# Altium footprint library IPC-7355 QFP_Sq_65P_Side_N.PcbLib: 7 footprints
Each footprint in its own frame and in the unit in brackets; x right, y up, seen from the top. Pads: shape width x height; smd on the part's side, far side on the other; paste and mask are expansions set on the pad; w line width, h text height; cw(c..) or ccw(c..) is an arc to the next point about the centre after c.
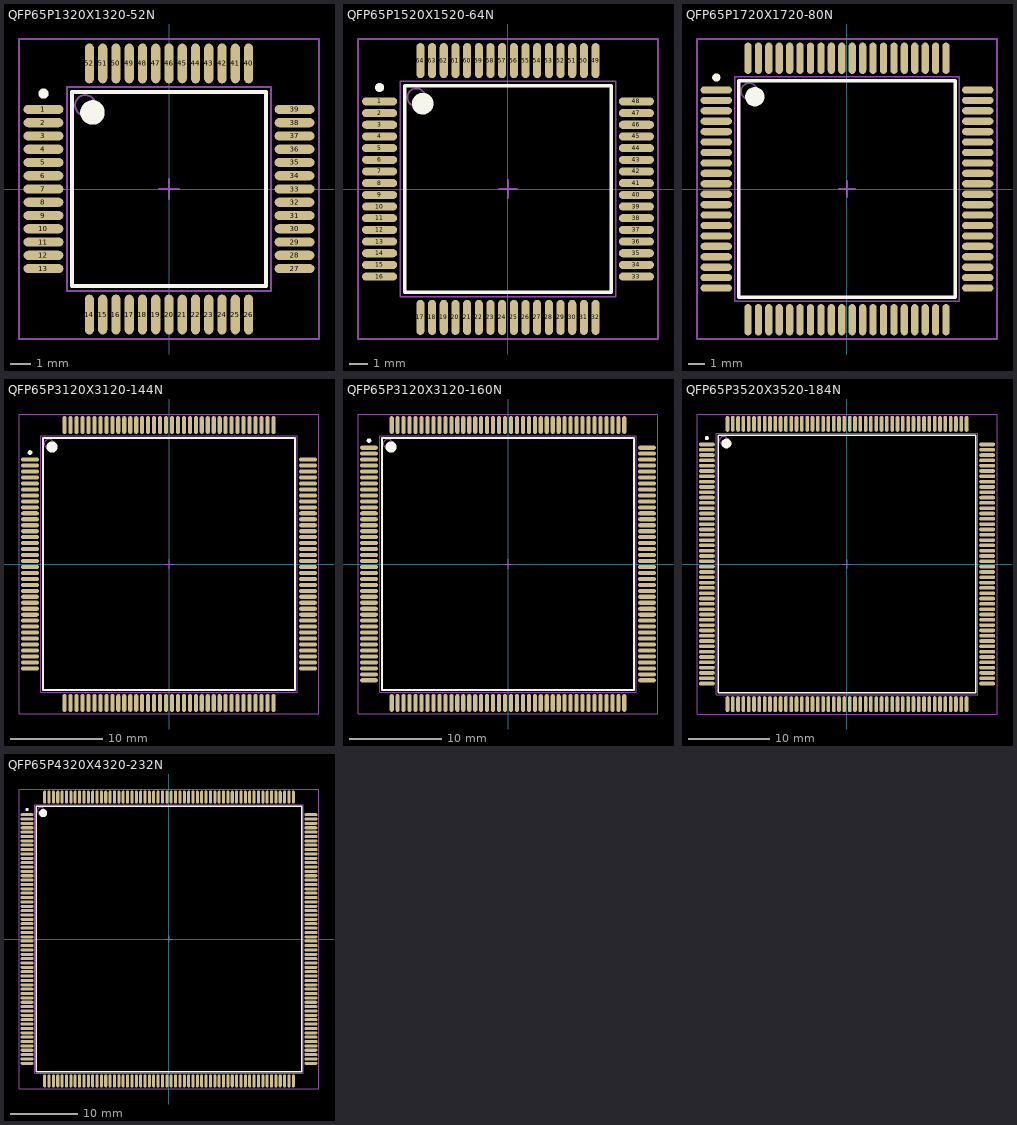
[diagram p0: the footprints below, top view; thin cyan lines are the x and y axes]

## QFP65P1320X1320-52N [mm] "QFP, 52-Leads, Body 10 x 10 mm, Pitch 0.65mm, IPC Medium Density"
height 2.45
pads (52):
  oval 1.95x0.45 smd: 1(-6.15,3.9) 2(-6.15,3.25) 3(-6.15,2.6) 4(-6.15,1.95) 5(-6.15,1.3) 6(-6.15,0.65) 7(-6.15,0) 8(-6.15,-0.65) 9(-6.15,-1.3) 10(-6.15,-1.95) 11(-6.15,-2.6) 12(-6.15,-3.25) 13(-6.15,-3.9) 27(6.15,-3.9) 28(6.15,-3.25) 29(6.15,-2.6) 30(6.15,-1.95) 31(6.15,-1.3) 32(6.15,-0.65) 33(6.15,0) 34(6.15,0.65) 35(6.15,1.3) 36(6.15,1.95) 37(6.15,2.6) 38(6.15,3.25) 39(6.15,3.9)
  oval 0.45x1.95 smd: 14(-3.9,-6.15) 15(-3.25,-6.15) 16(-2.6,-6.15) 17(-1.95,-6.15) 18(-1.3,-6.15) 19(-0.65,-6.15) 20(0,-6.15) 21(0.65,-6.15) 22(1.3,-6.15) 23(1.95,-6.15) 24(2.6,-6.15) 25(3.25,-6.15) 26(3.9,-6.15) 40(3.9,6.15) 41(3.25,6.15) 42(2.6,6.15) 43(1.95,6.15) 44(1.3,6.15) 45(0.65,6.15) 46(0,6.15) 47(-0.65,6.15) 48(-1.3,6.15) 49(-1.95,6.15) 50(-2.6,6.15) 51(-3.25,6.15) 52(-3.9,6.15)
Top Overlay:
  circle w0.6: c-3.75,3.75 r0.3
  circle w0.25: c-6.15,4.675 r0.125
  lines w0.2: -4.75,-4.75 4.75,-4.75 4.75,4.75 -4.75,4.75 -4.75,-4.75
Mechanical 13:
  circle w0.1: c-4.1,4.1 r0.5
  lines w0.1: -5,-5 5,-5 5,5 -5,5 -5,-5
Mechanical 15:
  lines w0.1: -0.5,0 0.5,0 ; 0,-0.5 0,0.5 ; -7.35,-7.35 7.35,-7.35 7.35,7.35 -7.35,7.35 -7.35,-7.35
3D body: height 2.45, standoff 0, extent -5,-5 5,5

## QFP65P1520X1520-64N [mm] "QFP, 64-Leads, Body 12 x 12 mm, Pitch 0.65mm, IPC Medium Density"
height 2.45
pads (64):
  oval 1.95x0.45 smd: 1(-7.15,4.875) 2(-7.15,4.225) 3(-7.15,3.575) 4(-7.15,2.925) 5(-7.15,2.275) 6(-7.15,1.625) 7(-7.15,0.975) 8(-7.15,0.325) 9(-7.15,-0.325) 10(-7.15,-0.975) 11(-7.15,-1.625) 12(-7.15,-2.275) 13(-7.15,-2.925) 14(-7.15,-3.575) 15(-7.15,-4.225) 16(-7.15,-4.875) 33(7.15,-4.875) 34(7.15,-4.225) 35(7.15,-3.575) 36(7.15,-2.925) 37(7.15,-2.275) 38(7.15,-1.625) 39(7.15,-0.975) 40(7.15,-0.325) 41(7.15,0.325) 42(7.15,0.975) 43(7.15,1.625) 44(7.15,2.275) 45(7.15,2.925) 46(7.15,3.575) 47(7.15,4.225) 48(7.15,4.875)
  oval 0.45x1.95 smd: 17(-4.875,-7.15) 18(-4.225,-7.15) 19(-3.575,-7.15) 20(-2.925,-7.15) 21(-2.275,-7.15) 22(-1.625,-7.15) 23(-0.975,-7.15) 24(-0.325,-7.15) 25(0.325,-7.15) 26(0.975,-7.15) 27(1.625,-7.15) 28(2.275,-7.15) 29(2.925,-7.15) 30(3.575,-7.15) 31(4.225,-7.15) 32(4.875,-7.15) 49(4.875,7.15) 50(4.225,7.15) 51(3.575,7.15) 52(2.925,7.15) 53(2.275,7.15) 54(1.625,7.15) 55(0.975,7.15) 56(0.325,7.15) 57(-0.325,7.15) 58(-0.975,7.15) 59(-1.625,7.15) 60(-2.275,7.15) 61(-2.925,7.15) 62(-3.575,7.15) 63(-4.225,7.15) 64(-4.875,7.15)
Top Overlay:
  circle w0.6: c-4.75,4.75 r0.3
  circle w0.25: c-7.15,5.65 r0.125
  lines w0.2: -5.75,-5.75 5.75,-5.75 5.75,5.75 -5.75,5.75 -5.75,-5.75
Mechanical 13:
  circle w0.1: c-5.1,5.1 r0.5
  lines w0.1: -6,-6 6,-6 6,6 -6,6 -6,-6
Mechanical 15:
  lines w0.1: -0.5,0 0.5,0 ; 0,-0.5 0,0.5 ; -8.35,-8.35 8.35,-8.35 8.35,8.35 -8.35,8.35 -8.35,-8.35
3D body: height 2.45, standoff 0, extent -6,-6 6,6

## QFP65P1720X1720-80N [mm] "QFP, 80-Leads, Body 14 x 14 mm, Pitch 0.65mm, IPC Medium Density"
height 2.45
pads (80):
  oval 1.95x0.45 smd: 1(-8.15,6.175) 2(-8.15,5.525) 3(-8.15,4.875) 4(-8.15,4.225) 5(-8.15,3.575) 6(-8.15,2.925) 7(-8.15,2.275) 8(-8.15,1.625) 9(-8.15,0.975) 10(-8.15,0.325) 11(-8.15,-0.325) 12(-8.15,-0.975) 13(-8.15,-1.625) 14(-8.15,-2.275) 15(-8.15,-2.925) 16(-8.15,-3.575) 17(-8.15,-4.225) 18(-8.15,-4.875) 19(-8.15,-5.525) 20(-8.15,-6.175) 41(8.15,-6.175) 42(8.15,-5.525) 43(8.15,-4.875) 44(8.15,-4.225) 45(8.15,-3.575) 46(8.15,-2.925) 47(8.15,-2.275) 48(8.15,-1.625) 49(8.15,-0.975) 50(8.15,-0.325) 51(8.15,0.325) 52(8.15,0.975) 53(8.15,1.625) 54(8.15,2.275) 55(8.15,2.925) 56(8.15,3.575) 57(8.15,4.225) 58(8.15,4.875) 59(8.15,5.525) 60(8.15,6.175)
  oval 0.45x1.95 smd: 21(-6.175,-8.15) 22(-5.525,-8.15) 23(-4.875,-8.15) 24(-4.225,-8.15) 25(-3.575,-8.15) 26(-2.925,-8.15) 27(-2.275,-8.15) 28(-1.625,-8.15) 29(-0.975,-8.15) 30(-0.325,-8.15) 31(0.325,-8.15) 32(0.975,-8.15) 33(1.625,-8.15) 34(2.275,-8.15) 35(2.925,-8.15) 36(3.575,-8.15) 37(4.225,-8.15) 38(4.875,-8.15) 39(5.525,-8.15) 40(6.175,-8.15) 61(6.175,8.15) 62(5.525,8.15) 63(4.875,8.15) 64(4.225,8.15) 65(3.575,8.15) 66(2.925,8.15) 67(2.275,8.15) 68(1.625,8.15) 69(0.975,8.15) 70(0.325,8.15) 71(-0.325,8.15) 72(-0.975,8.15) 73(-1.625,8.15) 74(-2.275,8.15) 75(-2.925,8.15) 76(-3.575,8.15) 77(-4.225,8.15) 78(-4.875,8.15) 79(-5.525,8.15) 80(-6.175,8.15)
Top Overlay:
  circle w0.6: c-5.75,5.75 r0.3
  circle w0.25: c-8.15,6.95 r0.125
  lines w0.2: -6.75,-6.75 6.75,-6.75 6.75,6.75 -6.75,6.75 -6.75,-6.75
Mechanical 13:
  circle w0.1: c-6.1,6.1 r0.5
  lines w0.1: -7,-7 7,-7 7,7 -7,7 -7,-7
Mechanical 15:
  lines w0.1: -0.5,0 0.5,0 ; 0,-0.5 0,0.5 ; -9.35,-9.35 9.35,-9.35 9.35,9.35 -9.35,9.35 -9.35,-9.35
3D body: height 2.45, standoff 0, extent -7,-7 7,7

## QFP65P3120X3120-144N [mm] "QFP, 144-Leads, Body 28 x 28 mm, Pitch 0.65mm, IPC Medium Density"
height 3.75
pads (144):
  oval 1.95x0.45 smd: 1(-15.15,11.375) 2(-15.15,10.725) 3(-15.15,10.075) 4(-15.15,9.425) 5(-15.15,8.775) 6(-15.15,8.125) 7(-15.15,7.475) 8(-15.15,6.825) 9(-15.15,6.175) 10(-15.15,5.525) 11(-15.15,4.875) 12(-15.15,4.225) 13(-15.15,3.575) 14(-15.15,2.925) 15(-15.15,2.275) 16(-15.15,1.625) 17(-15.15,0.975) 18(-15.15,0.325) 19(-15.15,-0.325) 20(-15.15,-0.975) 21(-15.15,-1.625) 22(-15.15,-2.275) 23(-15.15,-2.925) 24(-15.15,-3.575) 25(-15.15,-4.225) 26(-15.15,-4.875) 27(-15.15,-5.525) 28(-15.15,-6.175) 29(-15.15,-6.825) 30(-15.15,-7.475) 31(-15.15,-8.125) 32(-15.15,-8.775) 33(-15.15,-9.425) 34(-15.15,-10.075) 35(-15.15,-10.725) 36(-15.15,-11.375) 73(15.15,-11.375) 74(15.15,-10.725) 75(15.15,-10.075) 76(15.15,-9.425) 77(15.15,-8.775) 78(15.15,-8.125) 79(15.15,-7.475) 80(15.15,-6.825) 81(15.15,-6.175) 82(15.15,-5.525) 83(15.15,-4.875) 84(15.15,-4.225) 85(15.15,-3.575) 86(15.15,-2.925) 87(15.15,-2.275) 88(15.15,-1.625) 89(15.15,-0.975) 90(15.15,-0.325) 91(15.15,0.325) 92(15.15,0.975) 93(15.15,1.625) 94(15.15,2.275) 95(15.15,2.925) 96(15.15,3.575) 97(15.15,4.225) 98(15.15,4.875) 99(15.15,5.525) 100(15.15,6.175) 101(15.15,6.825) 102(15.15,7.475) 103(15.15,8.125) 104(15.15,8.775) 105(15.15,9.425) 106(15.15,10.075) 107(15.15,10.725) 108(15.15,11.375)
  oval 0.45x1.95 smd: 37(-11.375,-15.15) 38(-10.725,-15.15) 39(-10.075,-15.15) 40(-9.425,-15.15) 41(-8.775,-15.15) 42(-8.125,-15.15) 43(-7.475,-15.15) 44(-6.825,-15.15) 45(-6.175,-15.15) 46(-5.525,-15.15) 47(-4.875,-15.15) 48(-4.225,-15.15) 49(-3.575,-15.15) 50(-2.925,-15.15) 51(-2.275,-15.15) 52(-1.625,-15.15) 53(-0.975,-15.15) 54(-0.325,-15.15) 55(0.325,-15.15) 56(0.975,-15.15) 57(1.625,-15.15) 58(2.275,-15.15) 59(2.925,-15.15) 60(3.575,-15.15) 61(4.225,-15.15) 62(4.875,-15.15) 63(5.525,-15.15) 64(6.175,-15.15) 65(6.825,-15.15) 66(7.475,-15.15) 67(8.125,-15.15) 68(8.775,-15.15) 69(9.425,-15.15) 70(10.075,-15.15) 71(10.725,-15.15) 72(11.375,-15.15) 109(11.375,15.15) 110(10.725,15.15) 111(10.075,15.15) 112(9.425,15.15) 113(8.775,15.15) 114(8.125,15.15) 115(7.475,15.15) 116(6.825,15.15) 117(6.175,15.15) 118(5.525,15.15) 119(4.875,15.15) 120(4.225,15.15) 121(3.575,15.15) 122(2.925,15.15) 123(2.275,15.15) 124(1.625,15.15) 125(0.975,15.15) 126(0.325,15.15) 127(-0.325,15.15) 128(-0.975,15.15) 129(-1.625,15.15) 130(-2.275,15.15) 131(-2.925,15.15) 132(-3.575,15.15) 133(-4.225,15.15) 134(-4.875,15.15) 135(-5.525,15.15) 136(-6.175,15.15) 137(-6.825,15.15) 138(-7.475,15.15) 139(-8.125,15.15) 140(-8.775,15.15) 141(-9.425,15.15) 142(-10.075,15.15) 143(-10.725,15.15) 144(-11.375,15.15)
Top Overlay:
  circle w0.6: c-12.75,12.75 r0.3
  circle w0.25: c-15.15,12.15 r0.125
  lines w0.2: -13.75,-13.75 13.75,-13.75 13.75,13.75 -13.75,13.75 -13.75,-13.75
Mechanical 13:
  circle w0.1: c-13.1,13.1 r0.5
  lines w0.1: -14,-14 14,-14 14,14 -14,14 -14,-14
Mechanical 15:
  lines w0.1: -0.5,0 0.5,0 ; 0,-0.5 0,0.5 ; -16.35,-16.35 16.35,-16.35 16.35,16.35 -16.35,16.35 -16.35,-16.35
3D body: height 3.75, standoff 0, extent -14,-14 14,14

## QFP65P3120X3120-160N [mm] "QFP, 160-Leads, Body 28 x 28 mm, Pitch 0.65mm, IPC Medium Density"
height 3.75
pads (160):
  oval 1.95x0.45 smd: 1(-15.15,12.675) 2(-15.15,12.025) 3(-15.15,11.375) 4(-15.15,10.725) 5(-15.15,10.075) 6(-15.15,9.425) 7(-15.15,8.775) 8(-15.15,8.125) 9(-15.15,7.475) 10(-15.15,6.825) 11(-15.15,6.175) 12(-15.15,5.525) 13(-15.15,4.875) 14(-15.15,4.225) 15(-15.15,3.575) 16(-15.15,2.925) 17(-15.15,2.275) 18(-15.15,1.625) 19(-15.15,0.975) 20(-15.15,0.325) 21(-15.15,-0.325) 22(-15.15,-0.975) 23(-15.15,-1.625) 24(-15.15,-2.275) 25(-15.15,-2.925) 26(-15.15,-3.575) 27(-15.15,-4.225) 28(-15.15,-4.875) 29(-15.15,-5.525) 30(-15.15,-6.175) 31(-15.15,-6.825) 32(-15.15,-7.475) 33(-15.15,-8.125) 34(-15.15,-8.775) 35(-15.15,-9.425) 36(-15.15,-10.075) 37(-15.15,-10.725) 38(-15.15,-11.375) 39(-15.15,-12.025) 40(-15.15,-12.675) 81(15.15,-12.675) 82(15.15,-12.025) 83(15.15,-11.375) 84(15.15,-10.725) 85(15.15,-10.075) 86(15.15,-9.425) 87(15.15,-8.775) 88(15.15,-8.125) 89(15.15,-7.475) 90(15.15,-6.825) 91(15.15,-6.175) 92(15.15,-5.525) 93(15.15,-4.875) 94(15.15,-4.225) 95(15.15,-3.575) 96(15.15,-2.925) 97(15.15,-2.275) 98(15.15,-1.625) 99(15.15,-0.975) 100(15.15,-0.325) 101(15.15,0.325) 102(15.15,0.975) 103(15.15,1.625) 104(15.15,2.275) 105(15.15,2.925) 106(15.15,3.575) 107(15.15,4.225) 108(15.15,4.875) 109(15.15,5.525) 110(15.15,6.175) 111(15.15,6.825) 112(15.15,7.475) 113(15.15,8.125) 114(15.15,8.775) 115(15.15,9.425) 116(15.15,10.075) 117(15.15,10.725) 118(15.15,11.375) 119(15.15,12.025) 120(15.15,12.675)
  oval 0.45x1.95 smd: 41(-12.675,-15.15) 42(-12.025,-15.15) 43(-11.375,-15.15) 44(-10.725,-15.15) 45(-10.075,-15.15) 46(-9.425,-15.15) 47(-8.775,-15.15) 48(-8.125,-15.15) 49(-7.475,-15.15) 50(-6.825,-15.15) 51(-6.175,-15.15) 52(-5.525,-15.15) 53(-4.875,-15.15) 54(-4.225,-15.15) 55(-3.575,-15.15) 56(-2.925,-15.15) 57(-2.275,-15.15) 58(-1.625,-15.15) 59(-0.975,-15.15) 60(-0.325,-15.15) 61(0.325,-15.15) 62(0.975,-15.15) 63(1.625,-15.15) 64(2.275,-15.15) 65(2.925,-15.15) 66(3.575,-15.15) 67(4.225,-15.15) 68(4.875,-15.15) 69(5.525,-15.15) 70(6.175,-15.15) 71(6.825,-15.15) 72(7.475,-15.15) 73(8.125,-15.15) 74(8.775,-15.15) 75(9.425,-15.15) 76(10.075,-15.15) 77(10.725,-15.15) 78(11.375,-15.15) 79(12.025,-15.15) 80(12.675,-15.15) 121(12.675,15.15) 122(12.025,15.15) 123(11.375,15.15) 124(10.725,15.15) 125(10.075,15.15) 126(9.425,15.15) 127(8.775,15.15) 128(8.125,15.15) 129(7.475,15.15) 130(6.825,15.15) 131(6.175,15.15) 132(5.525,15.15) 133(4.875,15.15) 134(4.225,15.15) 135(3.575,15.15) 136(2.925,15.15) 137(2.275,15.15) 138(1.625,15.15) 139(0.975,15.15) 140(0.325,15.15) 141(-0.325,15.15) 142(-0.975,15.15) 143(-1.625,15.15) 144(-2.275,15.15) 145(-2.925,15.15) 146(-3.575,15.15) 147(-4.225,15.15) 148(-4.875,15.15) 149(-5.525,15.15) 150(-6.175,15.15) 151(-6.825,15.15) 152(-7.475,15.15) 153(-8.125,15.15) 154(-8.775,15.15) 155(-9.425,15.15) 156(-10.075,15.15) 157(-10.725,15.15) 158(-11.375,15.15) 159(-12.025,15.15) 160(-12.675,15.15)
Top Overlay:
  circle w0.25: c-15.15,13.45 r0.125
  circle w0.6: c-12.75,12.75 r0.3
  lines w0.2: -13.75,-13.75 -13.75,13.75 13.75,13.75 13.75,-13.75 -13.75,-13.75
Mechanical 13:
  circle w0.1: c-13.1,13.1 r0.5
  lines w0.1: -14,-14 -14,14 14,14 14,-14 -14,-14
Mechanical 15:
  lines w0.1: -0.5,0 0.5,0 ; 0,-0.5 0,0.5 ; -16.35,-16.35 -16.35,16.35 16.35,16.35 16.35,-16.35 -16.35,-16.35
3D body: height 3.75, standoff 0, extent -14,-14 14,14

## QFP65P3520X3520-184N [mm] "QFP, 184-Leads, Body 32 x 32 mm, Pitch 0.65mm, IPC Medium Density"
height 4.2
pads (184):
  oval 1.95x0.45 smd: 1(-17.15,14.625) 2(-17.15,13.975) 3(-17.15,13.325) 4(-17.15,12.675) 5(-17.15,12.025) 6(-17.15,11.375) 7(-17.15,10.725) 8(-17.15,10.075) 9(-17.15,9.425) 10(-17.15,8.775) 11(-17.15,8.125) 12(-17.15,7.475) 13(-17.15,6.825) 14(-17.15,6.175) 15(-17.15,5.525) 16(-17.15,4.875) 17(-17.15,4.225) 18(-17.15,3.575) 19(-17.15,2.925) 20(-17.15,2.275) 21(-17.15,1.625) 22(-17.15,0.975) 23(-17.15,0.325) 24(-17.15,-0.325) 25(-17.15,-0.975) 26(-17.15,-1.625) 27(-17.15,-2.275) 28(-17.15,-2.925) 29(-17.15,-3.575) 30(-17.15,-4.225) 31(-17.15,-4.875) 32(-17.15,-5.525) 33(-17.15,-6.175) 34(-17.15,-6.825) 35(-17.15,-7.475) 36(-17.15,-8.125) 37(-17.15,-8.775) 38(-17.15,-9.425) 39(-17.15,-10.075) 40(-17.15,-10.725) 41(-17.15,-11.375) 42(-17.15,-12.025) 43(-17.15,-12.675) 44(-17.15,-13.325) 45(-17.15,-13.975) 46(-17.15,-14.625) 93(17.15,-14.625) 94(17.15,-13.975) 95(17.15,-13.325) 96(17.15,-12.675) 97(17.15,-12.025) 98(17.15,-11.375) 99(17.15,-10.725) 100(17.15,-10.075) 101(17.15,-9.425) 102(17.15,-8.775) 103(17.15,-8.125) 104(17.15,-7.475) 105(17.15,-6.825) 106(17.15,-6.175) 107(17.15,-5.525) 108(17.15,-4.875) 109(17.15,-4.225) 110(17.15,-3.575) 111(17.15,-2.925) 112(17.15,-2.275) 113(17.15,-1.625) 114(17.15,-0.975) 115(17.15,-0.325) 116(17.15,0.325) 117(17.15,0.975) 118(17.15,1.625) 119(17.15,2.275) 120(17.15,2.925) 121(17.15,3.575) 122(17.15,4.225) 123(17.15,4.875) 124(17.15,5.525) 125(17.15,6.175) 126(17.15,6.825) 127(17.15,7.475) 128(17.15,8.125) 129(17.15,8.775) 130(17.15,9.425) 131(17.15,10.075) 132(17.15,10.725) 133(17.15,11.375) 134(17.15,12.025) 135(17.15,12.675) 136(17.15,13.325) 137(17.15,13.975) 138(17.15,14.625)
  oval 0.45x1.95 smd: 47(-14.625,-17.15) 48(-13.975,-17.15) 49(-13.325,-17.15) 50(-12.675,-17.15) 51(-12.025,-17.15) 52(-11.375,-17.15) 53(-10.725,-17.15) 54(-10.075,-17.15) 55(-9.425,-17.15) 56(-8.775,-17.15) 57(-8.125,-17.15) 58(-7.475,-17.15) 59(-6.825,-17.15) 60(-6.175,-17.15) 61(-5.525,-17.15) 62(-4.875,-17.15) 63(-4.225,-17.15) 64(-3.575,-17.15) 65(-2.925,-17.15) 66(-2.275,-17.15) 67(-1.625,-17.15) 68(-0.975,-17.15) 69(-0.325,-17.15) 70(0.325,-17.15) 71(0.975,-17.15) 72(1.625,-17.15) 73(2.275,-17.15) 74(2.925,-17.15) 75(3.575,-17.15) 76(4.225,-17.15) 77(4.875,-17.15) 78(5.525,-17.15) 79(6.175,-17.15) 80(6.825,-17.15) 81(7.475,-17.15) 82(8.125,-17.15) 83(8.775,-17.15) 84(9.425,-17.15) 85(10.075,-17.15) 86(10.725,-17.15) 87(11.375,-17.15) 88(12.025,-17.15) 89(12.675,-17.15) 90(13.325,-17.15) 91(13.975,-17.15) 92(14.625,-17.15) 139(14.625,17.15) 140(13.975,17.15) 141(13.325,17.15) 142(12.675,17.15) 143(12.025,17.15) 144(11.375,17.15) 145(10.725,17.15) 146(10.075,17.15) 147(9.425,17.15) 148(8.775,17.15) 149(8.125,17.15) 150(7.475,17.15) 151(6.825,17.15) 152(6.175,17.15) 153(5.525,17.15) 154(4.875,17.15) 155(4.225,17.15) 156(3.575,17.15) 157(2.925,17.15) 158(2.275,17.15) 159(1.625,17.15) 160(0.975,17.15) 161(0.325,17.15) 162(-0.325,17.15) 163(-0.975,17.15) 164(-1.625,17.15) 165(-2.275,17.15) 166(-2.925,17.15) 167(-3.575,17.15) 168(-4.225,17.15) 169(-4.875,17.15) 170(-5.525,17.15) 171(-6.175,17.15) 172(-6.825,17.15) 173(-7.475,17.15) 174(-8.125,17.15) 175(-8.775,17.15) 176(-9.425,17.15) 177(-10.075,17.15) 178(-10.725,17.15) 179(-11.375,17.15) 180(-12.025,17.15) 181(-12.675,17.15) 182(-13.325,17.15) 183(-13.975,17.15) 184(-14.625,17.15)
Top Overlay:
  circle w0.6: c-14.75,14.75 r0.3
  circle w0.25: c-17.15,15.4 r0.125
  lines w0.2: -15.75,-15.75 15.75,-15.75 15.75,15.75 -15.75,15.75 -15.75,-15.75
Mechanical 13:
  circle w0.1: c-15.1,15.1 r0.5
  lines w0.1: -16,-16 16,-16 16,16 -16,16 -16,-16
Mechanical 15:
  lines w0.1: -0.5,0 0.5,0 ; 0,-0.5 0,0.5 ; -18.35,-18.35 18.35,-18.35 18.35,18.35 -18.35,18.35 -18.35,-18.35
3D body: height 4.2, standoff 0, extent -16,-16 16,16

## QFP65P4320X4320-232N [mm] "QFP, 232-Leads, Body 40 x 40 mm, Pitch 0.65mm, IPC Medium Density"
height 4.2
pads (232):
  oval 1.95x0.45 smd: 1(-21.15,18.525) 2(-21.15,17.875) 3(-21.15,17.225) 4(-21.15,16.575) 5(-21.15,15.925) 6(-21.15,15.275) 7(-21.15,14.625) 8(-21.15,13.975) 9(-21.15,13.325) 10(-21.15,12.675) 11(-21.15,12.025) 12(-21.15,11.375) 13(-21.15,10.725) 14(-21.15,10.075) 15(-21.15,9.425) 16(-21.15,8.775) 17(-21.15,8.125) 18(-21.15,7.475) 19(-21.15,6.825) 20(-21.15,6.175) 21(-21.15,5.525) 22(-21.15,4.875) 23(-21.15,4.225) 24(-21.15,3.575) 25(-21.15,2.925) 26(-21.15,2.275) 27(-21.15,1.625) 28(-21.15,0.975) 29(-21.15,0.325) 30(-21.15,-0.325) 31(-21.15,-0.975) 32(-21.15,-1.625) 33(-21.15,-2.275) 34(-21.15,-2.925) 35(-21.15,-3.575) 36(-21.15,-4.225) 37(-21.15,-4.875) 38(-21.15,-5.525) 39(-21.15,-6.175) 40(-21.15,-6.825) 41(-21.15,-7.475) 42(-21.15,-8.125) 43(-21.15,-8.775) 44(-21.15,-9.425) 45(-21.15,-10.075) 46(-21.15,-10.725) 47(-21.15,-11.375) 48(-21.15,-12.025) 49(-21.15,-12.675) 50(-21.15,-13.325) 51(-21.15,-13.975) 52(-21.15,-14.625) 53(-21.15,-15.275) 54(-21.15,-15.925) 55(-21.15,-16.575) 56(-21.15,-17.225) 57(-21.15,-17.875) 58(-21.15,-18.525) 117(21.15,-18.525) 118(21.15,-17.875) 119(21.15,-17.225) 120(21.15,-16.575) 121(21.15,-15.925) 122(21.15,-15.275) 123(21.15,-14.625) 124(21.15,-13.975) 125(21.15,-13.325) 126(21.15,-12.675) 127(21.15,-12.025) 128(21.15,-11.375) 129(21.15,-10.725) 130(21.15,-10.075) 131(21.15,-9.425) 132(21.15,-8.775) 133(21.15,-8.125) 134(21.15,-7.475) 135(21.15,-6.825) 136(21.15,-6.175) 137(21.15,-5.525) 138(21.15,-4.875) 139(21.15,-4.225) 140(21.15,-3.575) 141(21.15,-2.925) 142(21.15,-2.275) 143(21.15,-1.625) 144(21.15,-0.975) 145(21.15,-0.325) 146(21.15,0.325) 147(21.15,0.975) 148(21.15,1.625) 149(21.15,2.275) 150(21.15,2.925) 151(21.15,3.575) 152(21.15,4.225) 153(21.15,4.875) 154(21.15,5.525) 155(21.15,6.175) 156(21.15,6.825) 157(21.15,7.475) 158(21.15,8.125) 159(21.15,8.775) 160(21.15,9.425) 161(21.15,10.075) 162(21.15,10.725) 163(21.15,11.375) 164(21.15,12.025) 165(21.15,12.675) 166(21.15,13.325) 167(21.15,13.975) 168(21.15,14.625) 169(21.15,15.275) 170(21.15,15.925) 171(21.15,16.575) 172(21.15,17.225) 173(21.15,17.875) 174(21.15,18.525)
  oval 0.45x1.95 smd: 59(-18.525,-21.15) 60(-17.875,-21.15) 61(-17.225,-21.15) 62(-16.575,-21.15) 63(-15.925,-21.15) 64(-15.275,-21.15) 65(-14.625,-21.15) 66(-13.975,-21.15) 67(-13.325,-21.15) 68(-12.675,-21.15) 69(-12.025,-21.15) 70(-11.375,-21.15) 71(-10.725,-21.15) 72(-10.075,-21.15) 73(-9.425,-21.15) 74(-8.775,-21.15) 75(-8.125,-21.15) 76(-7.475,-21.15) 77(-6.825,-21.15) 78(-6.175,-21.15) 79(-5.525,-21.15) 80(-4.875,-21.15) 81(-4.225,-21.15) 82(-3.575,-21.15) 83(-2.925,-21.15) 84(-2.275,-21.15) 85(-1.625,-21.15) 86(-0.975,-21.15) 87(-0.325,-21.15) 88(0.325,-21.15) 89(0.975,-21.15) 90(1.625,-21.15) 91(2.275,-21.15) 92(2.925,-21.15) 93(3.575,-21.15) 94(4.225,-21.15) 95(4.875,-21.15) 96(5.525,-21.15) 97(6.175,-21.15) 98(6.825,-21.15) 99(7.475,-21.15) 100(8.125,-21.15) 101(8.775,-21.15) 102(9.425,-21.15) 103(10.075,-21.15) 104(10.725,-21.15) 105(11.375,-21.15) 106(12.025,-21.15) 107(12.675,-21.15) 108(13.325,-21.15) 109(13.975,-21.15) 110(14.625,-21.15) 111(15.275,-21.15) 112(15.925,-21.15) 113(16.575,-21.15) 114(17.225,-21.15) 115(17.875,-21.15) 116(18.525,-21.15) 175(18.525,21.15) 176(17.875,21.15) 177(17.225,21.15) 178(16.575,21.15) 179(15.925,21.15) 180(15.275,21.15) 181(14.625,21.15) 182(13.975,21.15) 183(13.325,21.15) 184(12.675,21.15) 185(12.025,21.15) 186(11.375,21.15) 187(10.725,21.15) 188(10.075,21.15) 189(9.425,21.15) 190(8.775,21.15) 191(8.125,21.15) 192(7.475,21.15) 193(6.825,21.15) 194(6.175,21.15) 195(5.525,21.15) 196(4.875,21.15) 197(4.225,21.15) 198(3.575,21.15) 199(2.925,21.15) 200(2.275,21.15) 201(1.625,21.15) 202(0.975,21.15) 203(0.325,21.15) 204(-0.325,21.15) 205(-0.975,21.15) 206(-1.625,21.15) 207(-2.275,21.15) 208(-2.925,21.15) 209(-3.575,21.15) 210(-4.225,21.15) 211(-4.875,21.15) 212(-5.525,21.15) 213(-6.175,21.15) 214(-6.825,21.15) 215(-7.475,21.15) 216(-8.125,21.15) 217(-8.775,21.15) 218(-9.425,21.15) 219(-10.075,21.15) 220(-10.725,21.15) 221(-11.375,21.15) 222(-12.025,21.15) 223(-12.675,21.15) 224(-13.325,21.15) 225(-13.975,21.15) 226(-14.625,21.15) 227(-15.275,21.15) 228(-15.925,21.15) 229(-16.575,21.15) 230(-17.225,21.15) 231(-17.875,21.15) 232(-18.525,21.15)
Top Overlay:
  circle w0.6: c-18.75,18.75 r0.3
  circle w0.25: c-21.15,19.3 r0.125
  lines w0.2: -19.75,-19.75 19.75,-19.75 19.75,19.75 -19.75,19.75 -19.75,-19.75
Mechanical 13:
  circle w0.1: c-19.1,19.1 r0.5
  lines w0.1: -20,-20 20,-20 20,20 -20,20 -20,-20
Mechanical 15:
  lines w0.1: -0.5,0 0.5,0 ; 0,-0.5 0,0.5 ; -22.35,-22.35 22.35,-22.35 22.35,22.35 -22.35,22.35 -22.35,-22.35
3D body: height 4.2, standoff 0, extent -20,-20 20,20